# Altium footprint library XC6206P302MR.PcbLib: 1 footprints
Each footprint in its own frame and in the unit in brackets; x right, y up, seen from the top. Pads: shape width x height; smd on the part's side, far side on the other; paste and mask are expansions set on the pad; w line width, h text height; cw(c..) or ccw(c..) is an arc to the next point about the centre after c.
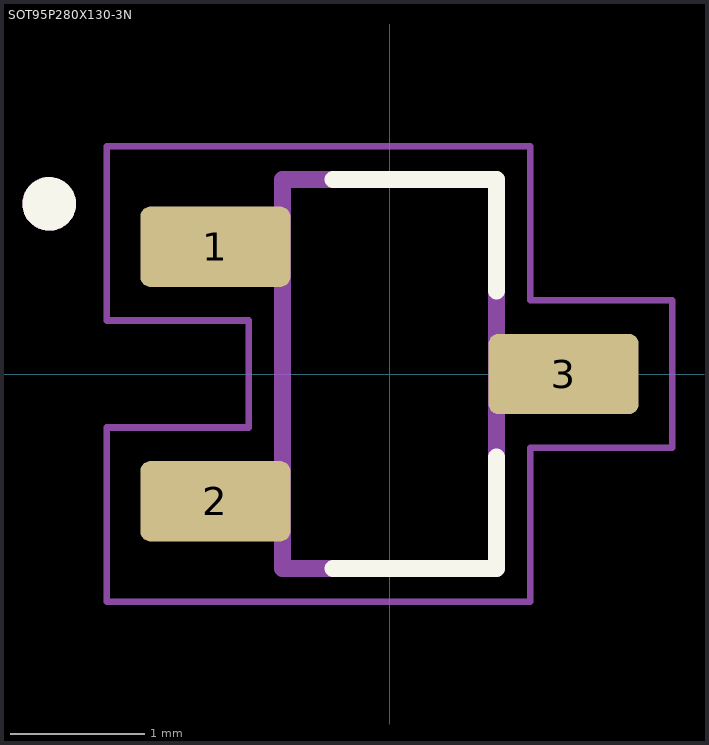
[diagram p0: the footprint, top view; thin cyan lines are the x and y axes]

## SOT95P280X130-3N [mm]
pads (3):
  rrect25% 1.12x0.6 smd: 1(-1.3,0.95) 2(-1.3,-0.95) 3(1.3,0)
Top Overlay:
  circle w0.2: c-2.54,1.27 r0.1
  lines w0.127: -0.42,-1.45 0.8,-1.45 0.8,-0.62 ; -0.42,1.45 0.8,1.45 0.8,0.62
Mechanical 13:
  circle w0.2: c-2.54,1.27 r0.1
  lines w0.127: -0.8,-1.45 0.8,-1.45 0.8,1.45 -0.8,1.45 -0.8,-1.45
Mechanical 15:
  lines w0.05: -2.11,-1.7 -2.11,-0.4 -1.05,-0.4 -1.05,0.4 -2.11,0.4 -2.11,1.7 1.05,1.7 1.05,0.55 2.11,0.55 2.11,-0.55 1.05,-0.55 1.05,-1.7 -2.11,-1.7
3D body "step_temp.STEP": height 1.3, standoff 0, extent -1.4,-1.45 1.4,1.45